# Altium schematic symbol library STM32F051K4U6TR.SchLib: 1 symbol
Pins are listed as number, name and electrical type; pins without a type are passive.

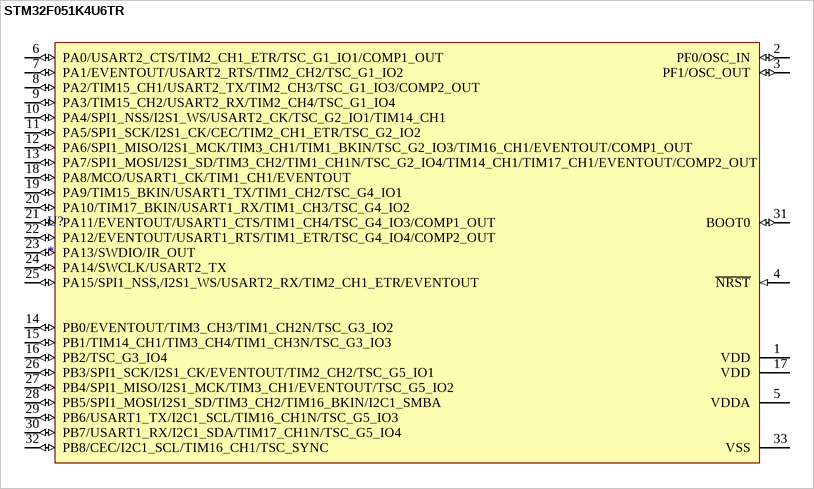
[diagram p0: symbol STM32F051K4U6TR]

## STM32F051K4U6TR
designator U?
pins: 1 VDD (power), 2 PF0/OSC_IN (io), 3 PF1/OSC_OUT (io), 4 ~{NRST} (in), 5 VDDA (power), 6 PA0/USART2_CTS/TIM2_CH1_ETR/TSC_G1_IO1/COMP1_OUT (io), 7 PA1/EVENTOUT/USART2_RTS/TIM2_CH2/TSC_G1_IO2 (io), 8 PA2/TIM15_CH1/USART2_TX/TIM2_CH3/TSC_G1_IO3/COMP2_OUT (io), 9 PA3/TIM15_CH2/USART2_RX/TIM2_CH4/TSC_G1_IO4 (io), 10 PA4/SPI1_NSS/I2S1_WS/USART2_CK/TSC_G2_IO1/TIM14_CH1 (io), 11 PA5/SPI1_SCK/I2S1_CK/CEC/TIM2_CH1_ETR/TSC_G2_IO2 (io), 12 PA6/SPI1_MISO/I2S1_MCK/TIM3_CH1/TIM1_BKIN/TSC_G2_IO3/TIM16_CH1/EVENTOUT/COMP1_OUT (io), 13 PA7/SPI1_MOSI/I2S1_SD/TIM3_CH2/TIM1_CH1N/TSC_G2_IO4/TIM14_CH1/TIM17_CH1/EVENTOUT/COMP2_OUT (io), 14 PB0/EVENTOUT/TIM3_CH3/TIM1_CH2N/TSC_G3_IO2 (io), 15 PB1/TIM14_CH1/TIM3_CH4/TIM1_CH3N/TSC_G3_IO3 (io), 16 PB2/TSC_G3_IO4 (io), 17 VDD (power), 18 PA8/MCO/USART1_CK/TIM1_CH1/EVENTOUT (io), 19 PA9/TIM15_BKIN/USART1_TX/TIM1_CH2/TSC_G4_IO1 (io), 20 PA10/TIM17_BKIN/USART1_RX/TIM1_CH3/TSC_G4_IO2 (io), 21 PA11/EVENTOUT/USART1_CTS/TIM1_CH4/TSC_G4_IO3/COMP1_OUT (io), 22 PA12/EVENTOUT/USART1_RTS/TIM1_ETR/TSC_G4_IO4/COMP2_OUT (io), 23 PA13/SWDIO/IR_OUT (io), 24 PA14/SWCLK/USART2_TX (io), 25 PA15/SPI1_NSS,/I2S1_WS/USART2_RX/TIM2_CH1_ETR/EVENTOUT (io), 26 PB3/SPI1_SCK/I2S1_CK/EVENTOUT/TIM2_CH2/TSC_G5_IO1 (io), 27 PB4/SPI1_MISO/I2S1_MCK/TIM3_CH1/EVENTOUT/TSC_G5_IO2 (io), 28 PB5/SPI1_MOSI/I2S1_SD/TIM3_CH2/TIM16_BKIN/I2C1_SMBA (io), 29 PB6/USART1_TX/I2C1_SCL/TIM16_CH1N/TSC_G5_IO3 (io), 30 PB7/USART1_RX/I2C1_SDA/TIM17_CH1N/TSC_G5_IO4 (io), 31 BOOT0 (io), 32 PB8/CEC/I2C1_SCL/TIM16_CH1/TSC_SYNC (io), 33 VSS (power)